# Altium footprint library RES SMD.PcbLib: 33 footprints (part 3 of 3)
Each footprint in its own frame and in the unit in brackets; x right, y up, seen from the top. Pads: shape width x height; smd on the part's side, far side on the other; paste and mask are expansions set on the pad; w line width, h text height; cw(c..) or ccw(c..) is an arc to the next point about the centre after c.
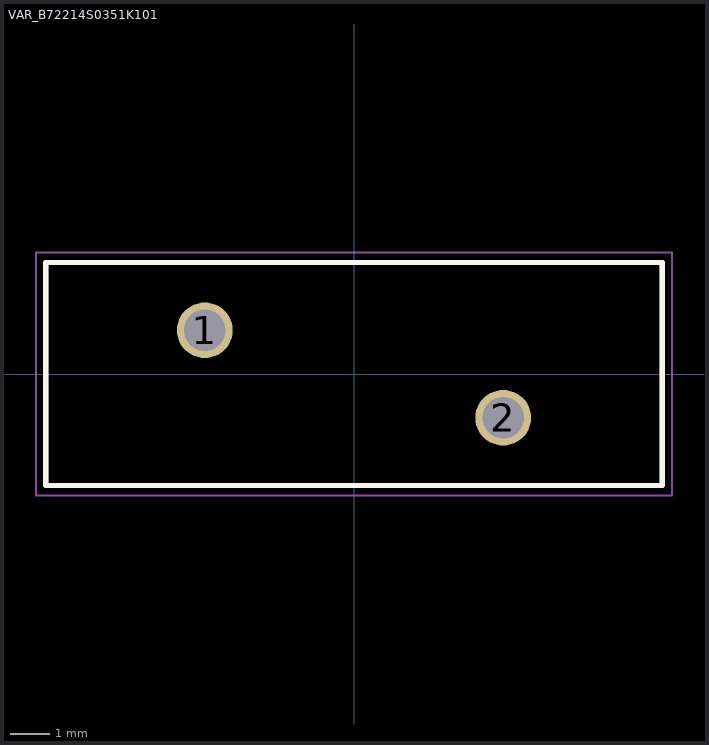
[diagram p2: the footprint, top view; thin cyan lines are the x and y axes]

## VAR_B72214S0351K101 [mm]
pads (2):
  round 1.4 hole 1.05: 1(-3.75,1.1) 2(3.75,-1.1)
Top Overlay:
  lines w0.127: -7.75,-2.8 -7.75,2.8 7.75,2.8 7.75,-2.8 -7.75,-2.8
Mechanical 15:
  lines w0.127: -7.75,-2.8 7.75,-2.8 7.75,2.8 -7.75,2.8 -7.75,-2.8
Mechanical 29:
  lines w0.05: -8,-3.05 8,-3.05 8,3.05 -8,3.05 -8,-3.05
  text "'.Designator'" at -7.366,-0.381 h1.52
3D body "s14k275e2.step": height 17.5, standoff -22.18, extent -7.5,-1.798 7.5,1.797